# EAGLE library part SANGUINO (library densikit)
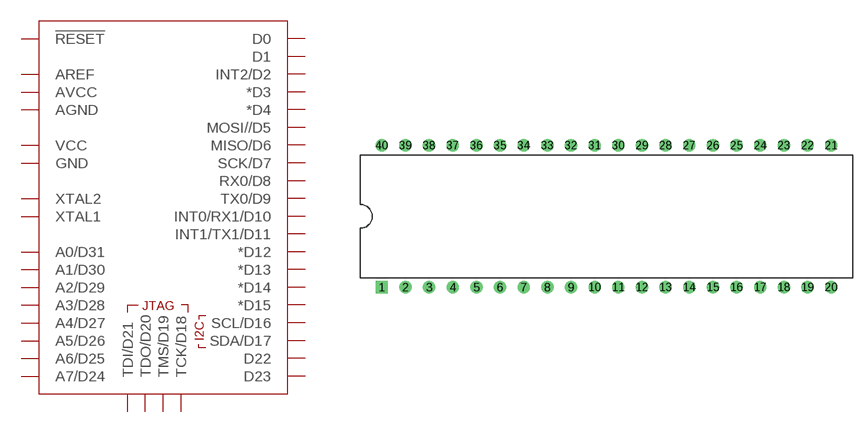
[diagram p12: symbol with the pads of DIL40; footprint DIL40]

Designator prefix IC

## SANGUINO  [DIL40]
1  D0  pas
2  D1  pas
3  INT2/D2  pas
4  *D3  pas
5  *D4  pas
6  MOSI//D5  pas
7  MISO/D6  pas
8  SCK/D7  pas
9  !RESET  pas
10  VCC  pwr
11  GND  pwr
12  XTAL2  pas
13  XTAL1  pas
14  RX0/D8  pas
15  TX0/D9  pas
16  INT0/RX1/D10  pas
17  INT1/TX1/D11  pas
18  *D12  pas
19  *D13  pas
20  *D14  pas
21  *D15  pas
22  SCL/D16  pas
23  SDA/D17  pas
24  TCK/D18  pas
25  TMS/D19  pas
26  TDO/D20  pas
27  TDI/D21  pas
28  D22  pas
29  D23  pas
30  AVCC  pwr
31  AGND  pwr
32  AREF  pas
33  A7/D24  pas
34  A6/D25  pas
35  A5/D26  pas
36  A4/D27  pas
37  A3/D28  pas
38  A2/D29  pas
39  A1/D30  pas
40  A0/D31  pas

## Footprint DIL40 (pad centres in mm)
Dual In Line
drill 0.813 square: 1 -24.13,-7.62
drill 0.813: 2 -21.59,-7.62; 3 -19.05,-7.62; 4 -16.51,-7.62; 5 -13.97,-7.62; 6 -11.43,-7.62; 7 -8.89,-7.62; 8 -6.35,-7.62; 9 -3.81,-7.62; 10 -1.27,-7.62; 11 1.27,-7.62; 12 3.81,-7.62; 13 6.35,-7.62; 14 8.89,-7.62; 15 11.43,-7.62; 16 13.97,-7.62; 17 16.51,-7.62; 18 19.05,-7.62; 19 21.59,-7.62; 20 24.13,-7.62; 21 24.13,7.62; 22 21.59,7.62; 23 19.05,7.62; 24 16.51,7.62; 25 13.97,7.62; 26 11.43,7.62; 27 8.89,7.62; 28 6.35,7.62; 29 3.81,7.62; 30 1.27,7.62; 31 -1.27,7.62; 32 -3.81,7.62; 33 -6.35,7.62; 34 -8.89,7.62; 35 -11.43,7.62; 36 -13.97,7.62; 37 -16.51,7.62; 38 -19.05,7.62; 39 -21.59,7.62; 40 -24.13,7.62